# Altium footprint library Connector_Wire.PcbLib: 326 footprints (part 8 of 21)
Each footprint in its own frame and in the unit in brackets; x right, y up, seen from the top. Pads: shape width x height; smd on the part's side, far side on the other; paste and mask are expansions set on the pad; w line width, h text height; cw(c..) or ccw(c..) is an arc to the next point about the centre after c.
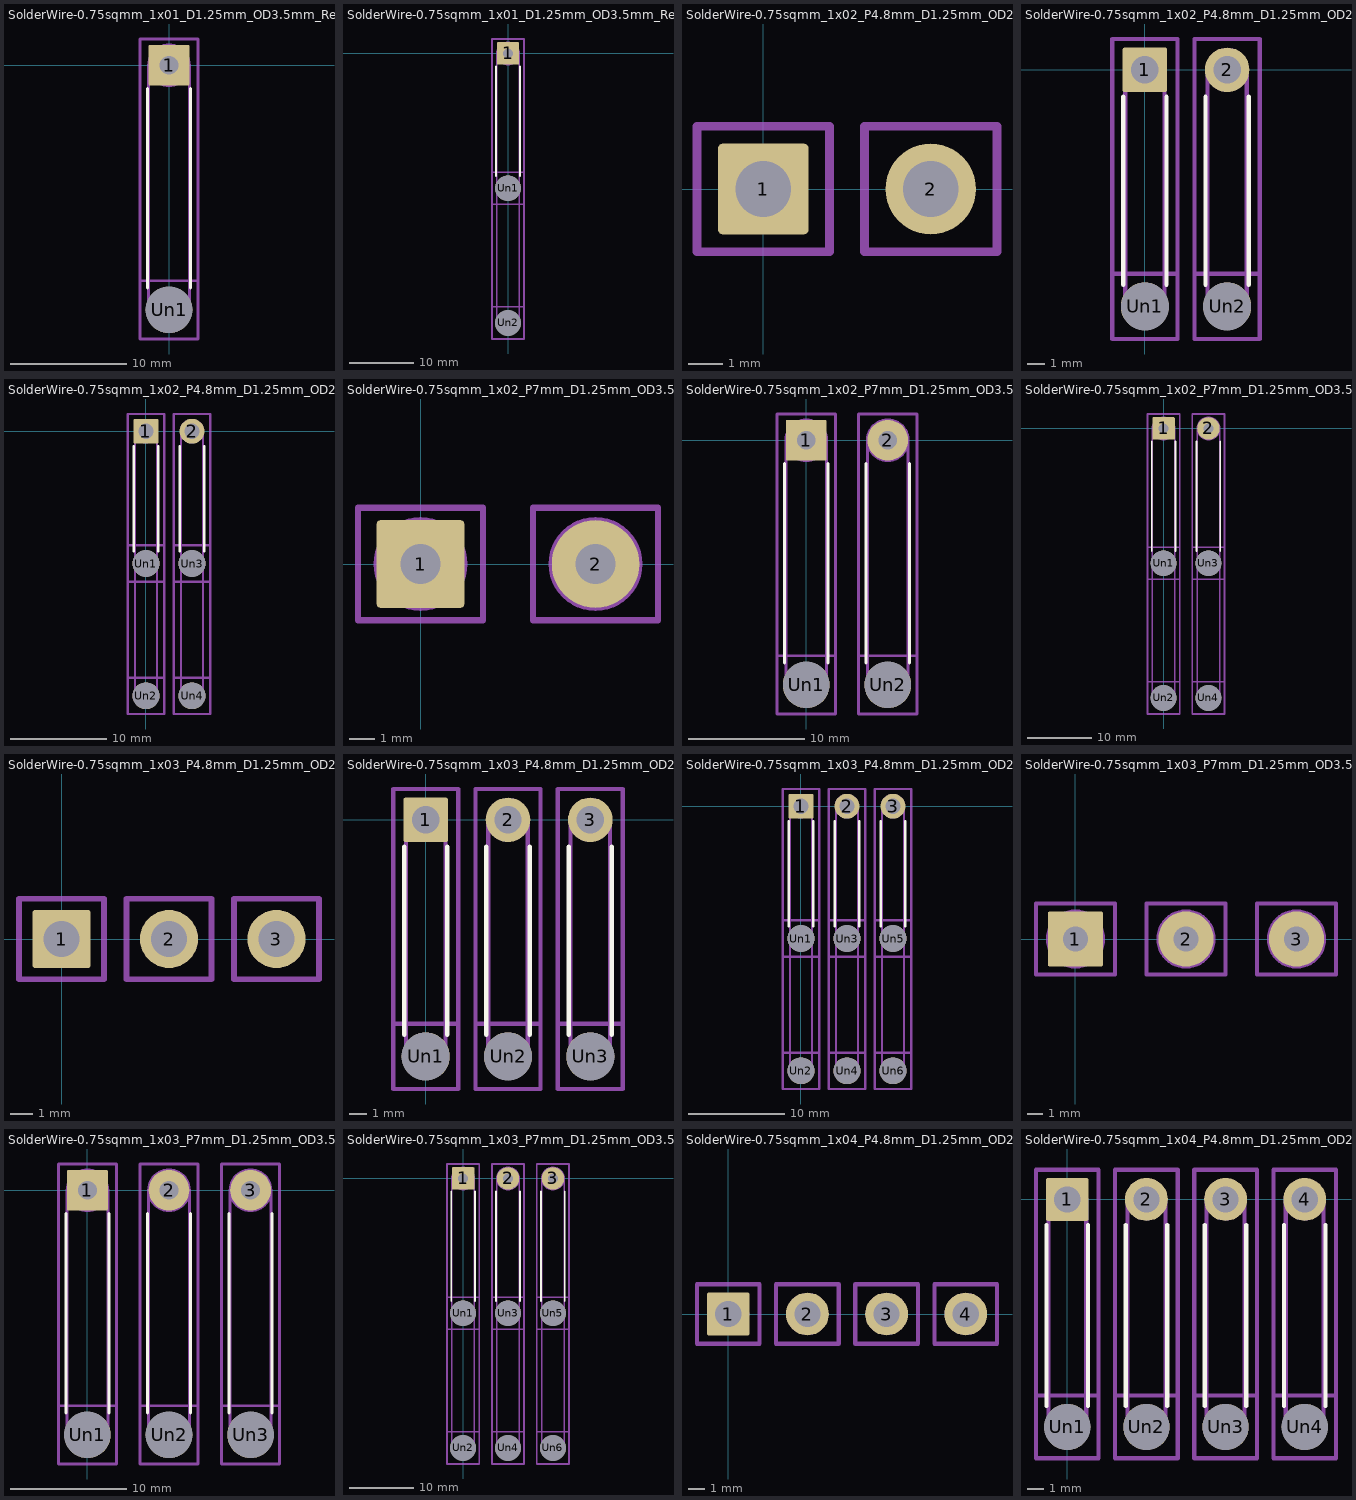
[diagram p7: the footprints below, top view; thin cyan lines are the x and y axes]

## SolderWire-0.75sqmm_1x01_D1.25mm_OD3.5mm_Relief [mm]
pads (2):
  rrect7% 3.5x3.5 hole 1.6: 1(0,0)
  round 4 hole 4: Un1(0,-21)
F.SilkS:
  lines w0.254: -1.86,-19.14 -1.86,-2.01 ; 1.86,-19.14 1.86,-2.01
Top Assembly:
  circle w0.254: c0,-21 r1.75
  circle w0.254: c0,0 r1.75
  lines w0.254: -1.75,-21 -1.75,0 ; 1.75,-21 1.75,0
  text "'.Designator'" at 0.84,-14.547 h1
Top Courtyard:
  lines w0.254: -2.5,-23.5 2.5,-23.5 2.5,2.25 -2.5,2.25 -2.5,-23.5
Bottom Courtyard:
  lines w0.254: -2.5,-23.5 2.5,-23.5 2.5,-18.5 -2.5,-18.5 -2.5,-23.5
Top Designator:
  text ".Designator" at -7.618,-11.133 h1.52

## SolderWire-0.75sqmm_1x01_D1.25mm_OD3.5mm_Relief2x [mm]
pads (3):
  rrect7% 3.5x3.5 hole 1.6: 1(0,0)
  round 4 hole 4: Un1(0,-21) Un2(0,-42)
F.SilkS:
  lines w0.254: -1.86,-19.14 -1.86,-2.01 ; 1.86,-19.14 1.86,-2.01
B.SilkS:
  lines w0.254: -1.86,-40.14 -1.86,-22.86 ; 1.86,-40.14 1.86,-22.86
Top Assembly:
  circle w0.254: c0,-42 r1.75
  circle w0.254: c0,-21 r1.75
  circle w0.254: c0,0 r1.75
  lines w0.254: -1.75,-21 -1.75,0 ; 1.75,-21 1.75,0
  text "'.Designator'" at 0.84,-14.547 h1
Bottom Assembly:
  circle w0.254: c0,-42 r1.75
  circle w0.254: c0,-21 r1.75
  lines w0.254: -1.75,-42 -1.75,-21 ; 1.75,-42 1.75,-21
Top Courtyard:
  lines w0.254: -2.5,-44.5 2.5,-44.5 2.5,-39.5 -2.5,-39.5 -2.5,-44.5 ; -2.5,-23.5 2.5,-23.5 2.5,2.25 -2.5,2.25 -2.5,-23.5
Bottom Courtyard:
  lines w0.254: -2.5,-44.5 2.5,-44.5 2.5,-18.5 -2.5,-18.5 -2.5,-44.5
Top Designator:
  text ".Designator" at -7.618,-21.633 h1.52

## SolderWire-0.75sqmm_1x02_P4.8mm_D1.25mm_OD2.3mm [mm]
pads (2):
  rrect10% 2.6x2.6 hole 1.6: 1(0,0)
  round 2.6 hole 1.6: 2(4.8,0)
Top Assembly:
  circle w0.254: c4.8,0 r1.15
  circle w0.254: c0,0 r1.15
  text "'.Designator'" at 3.161,-3.647 h0.9
Top Courtyard:
  lines w0.254: -1.9,-1.8 1.9,-1.8 1.9,1.8 -1.9,1.8 -1.9,-1.8 ; 2.9,-1.8 6.7,-1.8 6.7,1.8 2.9,1.8 2.9,-1.8
Top Designator:
  text ".Designator" at -5.218,-0.648 h1.52

## SolderWire-0.75sqmm_1x02_P4.8mm_D1.25mm_OD2.3mm_Relief [mm]
pads (4):
  rrect10% 2.6x2.6 hole 1.6: 1(0,0)
  round 2.6 hole 1.6: 2(4.8,0)
  round 2.8 hole 2.8: Un1(0,-13.8) Un2(4.8,-13.8)
F.SilkS:
  lines w0.254: -1.26,-12.54 -1.26,-1.56 ; 1.26,-12.54 1.26,-1.56 ; 3.54,-12.54 3.54,-1.56 ; 6.06,-12.54 6.06,-1.56
Top Assembly:
  circle w0.254: c4.8,-13.8 r1.15
  circle w0.254: c4.8,0 r1.15
  circle w0.254: c0,-13.8 r1.15
  circle w0.254: c0,0 r1.15
  lines w0.254: -1.15,-13.8 -1.15,0 ; 1.15,-13.8 1.15,0 ; 3.65,-13.8 3.65,0 ; 5.95,-13.8 5.95,0
  text "'.Designator'" at 3.24,-10.947 h1
Top Courtyard:
  lines w0.254: -1.9,-15.7 1.9,-15.7 1.9,1.8 -1.9,1.8 -1.9,-15.7 ; 2.9,-15.7 6.7,-15.7 6.7,1.8 2.9,1.8 2.9,-15.7
Bottom Courtyard:
  lines w0.254: -1.9,-15.7 1.9,-15.7 1.9,-11.9 -1.9,-11.9 -1.9,-15.7 ; 2.9,-15.7 6.7,-15.7 6.7,-11.9 2.9,-11.9 2.9,-15.7
Top Designator:
  text ".Designator" at -5.218,-7.458 h1.52

## SolderWire-0.75sqmm_1x02_P4.8mm_D1.25mm_OD2.3mm_Relief2x [mm]
pads (6):
  rrect10% 2.6x2.6 hole 1.6: 1(0,0)
  round 2.6 hole 1.6: 2(4.8,0)
  round 2.8 hole 2.8: Un1(0,-13.8) Un2(0,-27.6) Un3(4.8,-13.8) Un4(4.8,-27.6)
F.SilkS:
  lines w0.254: -1.26,-12.54 -1.26,-1.56 ; 1.26,-12.54 1.26,-1.56 ; 3.54,-12.54 3.54,-1.56 ; 6.06,-12.54 6.06,-1.56
B.SilkS:
  lines w0.254: -1.26,-26.34 -1.26,-15.06 ; 1.26,-26.34 1.26,-15.06 ; 3.54,-26.34 3.54,-15.06 ; 6.06,-26.34 6.06,-15.06
Top Assembly:
  circle w0.254: c4.8,-27.6 r1.15
  circle w0.254: c4.8,-13.8 r1.15
  circle w0.254: c4.8,0 r1.15
  circle w0.254: c0,-27.6 r1.15
  circle w0.254: c0,-13.8 r1.15
  circle w0.254: c0,0 r1.15
  lines w0.254: -1.15,-13.8 -1.15,0 ; 1.15,-13.8 1.15,0 ; 3.65,-13.8 3.65,0 ; 5.95,-13.8 5.95,0
  text "'.Designator'" at 3.24,-10.947 h1
Bottom Assembly:
  circle w0.254: c4.8,-27.6 r1.15
  circle w0.254: c4.8,-13.8 r1.15
  circle w0.254: c0,-27.6 r1.15
  circle w0.254: c0,-13.8 r1.15
  lines w0.254: -1.15,-27.6 -1.15,-13.8 ; 1.15,-27.6 1.15,-13.8 ; 3.65,-27.6 3.65,-13.8 ; 5.95,-27.6 5.95,-13.8
Top Courtyard:
  lines w0.254: -1.9,-29.5 1.9,-29.5 1.9,-25.7 -1.9,-25.7 -1.9,-29.5 ; -1.9,-15.7 1.9,-15.7 1.9,1.8 -1.9,1.8 -1.9,-15.7 ; 2.9,-29.5 6.7,-29.5 6.7,-25.7 2.9,-25.7 2.9,-29.5 ; 2.9,-15.7 6.7,-15.7 6.7,1.8 2.9,1.8 2.9,-15.7
Bottom Courtyard:
  lines w0.254: -1.9,-29.5 1.9,-29.5 1.9,-11.9 -1.9,-11.9 -1.9,-29.5 ; 2.9,-29.5 6.7,-29.5 6.7,-11.9 2.9,-11.9 2.9,-29.5
Top Designator:
  text ".Designator" at -5.218,-14.358 h1.52

## SolderWire-0.75sqmm_1x02_P7mm_D1.25mm_OD3.5mm [mm]
pads (2):
  rrect7% 3.5x3.5 hole 1.6: 1(0,0)
  round 3.5 hole 1.6: 2(7,0)
Top Assembly:
  circle w0.254: c7,0 r1.75
  circle w0.254: c0,0 r1.75
  text "'.Designator'" at 4.34,-4.047 h1
Top Courtyard:
  lines w0.254: -2.5,-2.25 2.5,-2.25 2.5,2.25 -2.5,2.25 -2.5,-2.25 ; 4.5,-2.25 9.5,-2.25 9.5,2.25 4.5,2.25 4.5,-2.25
Top Designator:
  text ".Designator" at -4.118,-0.658 h1.52

## SolderWire-0.75sqmm_1x02_P7mm_D1.25mm_OD3.5mm_Relief [mm]
pads (4):
  rrect7% 3.5x3.5 hole 1.6: 1(0,0)
  round 3.5 hole 1.6: 2(7,0)
  round 4 hole 4: Un1(0,-21) Un2(7,-21)
F.SilkS:
  lines w0.254: -1.86,-19.14 -1.86,-2.01 ; 1.86,-19.14 1.86,-2.01 ; 5.14,-19.14 5.14,-2.01 ; 8.86,-19.14 8.86,-2.01
Top Assembly:
  circle w0.254: c7,-21 r1.75
  circle w0.254: c7,0 r1.75
  circle w0.254: c0,-21 r1.75
  circle w0.254: c0,0 r1.75
  lines w0.254: -1.75,-21 -1.75,0 ; 1.75,-21 1.75,0 ; 5.25,-21 5.25,0 ; 8.75,-21 8.75,0
  text "'.Designator'" at 4.34,-14.547 h1
Top Courtyard:
  lines w0.254: -2.5,-23.5 2.5,-23.5 2.5,2.25 -2.5,2.25 -2.5,-23.5 ; 4.5,-23.5 9.5,-23.5 9.5,2.25 4.5,2.25 4.5,-23.5
Bottom Courtyard:
  lines w0.254: -2.5,-23.5 2.5,-23.5 2.5,-18.5 -2.5,-18.5 -2.5,-23.5 ; 4.5,-23.5 9.5,-23.5 9.5,-18.5 4.5,-18.5 4.5,-23.5
Top Designator:
  text ".Designator" at -4.118,-11.133 h1.52

## SolderWire-0.75sqmm_1x02_P7mm_D1.25mm_OD3.5mm_Relief2x [mm]
pads (6):
  rrect7% 3.5x3.5 hole 1.6: 1(0,0)
  round 3.5 hole 1.6: 2(7,0)
  round 4 hole 4: Un1(0,-21) Un2(0,-42) Un3(7,-21) Un4(7,-42)
F.SilkS:
  lines w0.254: -1.86,-19.14 -1.86,-2.01 ; 1.86,-19.14 1.86,-2.01 ; 5.14,-19.14 5.14,-2.01 ; 8.86,-19.14 8.86,-2.01
B.SilkS:
  lines w0.254: -1.86,-40.14 -1.86,-22.86 ; 1.86,-40.14 1.86,-22.86 ; 5.14,-40.14 5.14,-22.86 ; 8.86,-40.14 8.86,-22.86
Top Assembly:
  circle w0.254: c7,-42 r1.75
  circle w0.254: c7,-21 r1.75
  circle w0.254: c7,0 r1.75
  circle w0.254: c0,-42 r1.75
  circle w0.254: c0,-21 r1.75
  circle w0.254: c0,0 r1.75
  lines w0.254: -1.75,-21 -1.75,0 ; 1.75,-21 1.75,0 ; 5.25,-21 5.25,0 ; 8.75,-21 8.75,0
  text "'.Designator'" at 4.34,-14.547 h1
Bottom Assembly:
  circle w0.254: c7,-42 r1.75
  circle w0.254: c7,-21 r1.75
  circle w0.254: c0,-42 r1.75
  circle w0.254: c0,-21 r1.75
  lines w0.254: -1.75,-42 -1.75,-21 ; 1.75,-42 1.75,-21 ; 5.25,-42 5.25,-21 ; 8.75,-42 8.75,-21
Top Courtyard:
  lines w0.254: -2.5,-44.5 2.5,-44.5 2.5,-39.5 -2.5,-39.5 -2.5,-44.5 ; -2.5,-23.5 2.5,-23.5 2.5,2.25 -2.5,2.25 -2.5,-23.5 ; 4.5,-44.5 9.5,-44.5 9.5,-39.5 4.5,-39.5 4.5,-44.5 ; 4.5,-23.5 9.5,-23.5 9.5,2.25 4.5,2.25 4.5,-23.5
Bottom Courtyard:
  lines w0.254: -2.5,-44.5 2.5,-44.5 2.5,-18.5 -2.5,-18.5 -2.5,-44.5 ; 4.5,-44.5 9.5,-44.5 9.5,-18.5 4.5,-18.5 4.5,-44.5
Top Designator:
  text ".Designator" at -4.118,-21.633 h1.52

## SolderWire-0.75sqmm_1x03_P4.8mm_D1.25mm_OD2.3mm [mm]
pads (3):
  rrect10% 2.6x2.6 hole 1.6: 1(0,0)
  round 2.6 hole 1.6: 2(4.8,0) 3(9.6,0)
Top Assembly:
  circle w0.254: c9.6,0 r1.15
  circle w0.254: c4.8,0 r1.15
  circle w0.254: c0,0 r1.15
  text "'.Designator'" at 5.283,-2.311 h0.57
Top Courtyard:
  lines w0.254: -1.9,-1.8 1.9,-1.8 1.9,1.8 -1.9,1.8 -1.9,-1.8 ; 2.9,-1.8 6.7,-1.8 6.7,1.8 2.9,1.8 2.9,-1.8 ; 7.7,-1.8 11.5,-1.8 11.5,1.8 7.7,1.8 7.7,-1.8
Top Designator:
  text ".Designator" at -2.818,-0.598 h1.52

## SolderWire-0.75sqmm_1x03_P4.8mm_D1.25mm_OD2.3mm_Relief [mm]
pads (6):
  rrect10% 2.6x2.6 hole 1.6: 1(0,0)
  round 2.6 hole 1.6: 2(4.8,0) 3(9.6,0)
  round 2.8 hole 2.8: Un1(0,-13.8) Un2(4.8,-13.8) Un3(9.6,-13.8)
F.SilkS:
  lines w0.254: -1.26,-12.54 -1.26,-1.56 ; 1.26,-12.54 1.26,-1.56 ; 3.54,-12.54 3.54,-1.56 ; 6.06,-12.54 6.06,-1.56 ; 8.34,-12.54 8.34,-1.56 ; 10.86,-12.54 10.86,-1.56
Top Assembly:
  circle w0.254: c9.6,-13.8 r1.15
  circle w0.254: c9.6,0 r1.15
  circle w0.254: c4.8,-13.8 r1.15
  circle w0.254: c4.8,0 r1.15
  circle w0.254: c0,-13.8 r1.15
  circle w0.254: c0,0 r1.15
  lines w0.254: -1.15,-13.8 -1.15,0 ; 1.15,-13.8 1.15,0 ; 3.65,-13.8 3.65,0 ; 5.95,-13.8 5.95,0 ; 8.45,-13.8 8.45,0 ; 10.75,-13.8 10.75,0
  text "'.Designator'" at 5.64,-10.947 h1
Top Courtyard:
  lines w0.254: -1.9,-15.7 1.9,-15.7 1.9,1.8 -1.9,1.8 -1.9,-15.7 ; 2.9,-15.7 6.7,-15.7 6.7,1.8 2.9,1.8 2.9,-15.7 ; 7.7,-15.7 11.5,-15.7 11.5,1.8 7.7,1.8 7.7,-15.7
Bottom Courtyard:
  lines w0.254: -1.9,-15.7 1.9,-15.7 1.9,-11.9 -1.9,-11.9 -1.9,-15.7 ; 2.9,-15.7 6.7,-15.7 6.7,-11.9 2.9,-11.9 2.9,-15.7 ; 7.7,-15.7 11.5,-15.7 11.5,-11.9 7.7,-11.9 7.7,-15.7
Top Designator:
  text ".Designator" at -2.818,-7.458 h1.52

## SolderWire-0.75sqmm_1x03_P4.8mm_D1.25mm_OD2.3mm_Relief2x [mm]
pads (9):
  rrect10% 2.6x2.6 hole 1.6: 1(0,0)
  round 2.6 hole 1.6: 2(4.8,0) 3(9.6,0)
  round 2.8 hole 2.8: Un1(0,-13.8) Un2(0,-27.6) Un3(4.8,-13.8) Un4(4.8,-27.6) Un5(9.6,-13.8) Un6(9.6,-27.6)
F.SilkS:
  lines w0.254: -1.26,-12.54 -1.26,-1.56 ; 1.26,-12.54 1.26,-1.56 ; 3.54,-12.54 3.54,-1.56 ; 6.06,-12.54 6.06,-1.56 ; 8.34,-12.54 8.34,-1.56 ; 10.86,-12.54 10.86,-1.56
B.SilkS:
  lines w0.254: -1.26,-26.34 -1.26,-15.06 ; 1.26,-26.34 1.26,-15.06 ; 3.54,-26.34 3.54,-15.06 ; 6.06,-26.34 6.06,-15.06 ; 8.34,-26.34 8.34,-15.06 ; 10.86,-26.34 10.86,-15.06
Top Assembly:
  circle w0.254: c9.6,-27.6 r1.15
  circle w0.254: c9.6,-13.8 r1.15
  circle w0.254: c9.6,0 r1.15
  circle w0.254: c4.8,-27.6 r1.15
  circle w0.254: c4.8,-13.8 r1.15
  circle w0.254: c4.8,0 r1.15
  circle w0.254: c0,-27.6 r1.15
  circle w0.254: c0,-13.8 r1.15
  circle w0.254: c0,0 r1.15
  lines w0.254: -1.15,-13.8 -1.15,0 ; 1.15,-13.8 1.15,0 ; 3.65,-13.8 3.65,0 ; 5.95,-13.8 5.95,0 ; 8.45,-13.8 8.45,0 ; 10.75,-13.8 10.75,0
  text "'.Designator'" at 5.64,-10.947 h1
Bottom Assembly:
  circle w0.254: c9.6,-27.6 r1.15
  circle w0.254: c9.6,-13.8 r1.15
  circle w0.254: c4.8,-27.6 r1.15
  circle w0.254: c4.8,-13.8 r1.15
  circle w0.254: c0,-27.6 r1.15
  circle w0.254: c0,-13.8 r1.15
  lines w0.254: -1.15,-27.6 -1.15,-13.8 ; 1.15,-27.6 1.15,-13.8 ; 3.65,-27.6 3.65,-13.8 ; 5.95,-27.6 5.95,-13.8 ; 8.45,-27.6 8.45,-13.8 ; 10.75,-27.6 10.75,-13.8
Top Courtyard:
  lines w0.254: -1.9,-29.5 1.9,-29.5 1.9,-25.7 -1.9,-25.7 -1.9,-29.5 ; -1.9,-15.7 1.9,-15.7 1.9,1.8 -1.9,1.8 -1.9,-15.7 ; 2.9,-29.5 6.7,-29.5 6.7,-25.7 2.9,-25.7 2.9,-29.5 ; 2.9,-15.7 6.7,-15.7 6.7,1.8 2.9,1.8 2.9,-15.7 ; 7.7,-29.5 11.5,-29.5 11.5,-25.7 7.7,-25.7 7.7,-29.5 ; 7.7,-15.7 11.5,-15.7 11.5,1.8 7.7,1.8 7.7,-15.7
Bottom Courtyard:
  lines w0.254: -1.9,-29.5 1.9,-29.5 1.9,-11.9 -1.9,-11.9 -1.9,-29.5 ; 2.9,-29.5 6.7,-29.5 6.7,-11.9 2.9,-11.9 2.9,-29.5 ; 7.7,-29.5 11.5,-29.5 11.5,-11.9 7.7,-11.9 7.7,-29.5
Top Designator:
  text ".Designator" at -2.818,-14.358 h1.52

## SolderWire-0.75sqmm_1x03_P7mm_D1.25mm_OD3.5mm [mm]
pads (3):
  rrect7% 3.5x3.5 hole 1.6: 1(0,0)
  round 3.5 hole 1.6: 2(7,0) 3(14,0)
Top Assembly:
  circle w0.254: c14,0 r1.75
  circle w0.254: c7,0 r1.75
  circle w0.254: c0,0 r1.75
  text "'.Designator'" at 3.441,-0.737 h0.88
Top Courtyard:
  lines w0.254: -2.5,-2.25 2.5,-2.25 2.5,2.25 -2.5,2.25 -2.5,-2.25 ; 4.5,-2.25 9.5,-2.25 9.5,2.25 4.5,2.25 4.5,-2.25 ; 11.5,-2.25 16.5,-2.25 16.5,2.25 11.5,2.25 11.5,-2.25
Top Designator:
  text ".Designator" at -0.618,-0.508 h1.52

## SolderWire-0.75sqmm_1x03_P7mm_D1.25mm_OD3.5mm_Relief [mm]
pads (6):
  rrect7% 3.5x3.5 hole 1.6: 1(0,0)
  round 3.5 hole 1.6: 2(7,0) 3(14,0)
  round 4 hole 4: Un1(0,-21) Un2(7,-21) Un3(14,-21)
F.SilkS:
  lines w0.254: -1.86,-19.14 -1.86,-2.01 ; 1.86,-19.14 1.86,-2.01 ; 5.14,-19.14 5.14,-2.01 ; 8.86,-19.14 8.86,-2.01 ; 12.14,-19.14 12.14,-2.01 ; 15.86,-19.14 15.86,-2.01
Top Assembly:
  circle w0.254: c14,-21 r1.75
  circle w0.254: c14,0 r1.75
  circle w0.254: c7,-21 r1.75
  circle w0.254: c7,0 r1.75
  circle w0.254: c0,-21 r1.75
  circle w0.254: c0,0 r1.75
  lines w0.254: -1.75,-21 -1.75,0 ; 1.75,-21 1.75,0 ; 5.25,-21 5.25,0 ; 8.75,-21 8.75,0 ; 12.25,-21 12.25,0 ; 15.75,-21 15.75,0
  text "'.Designator'" at 7.84,-14.547 h1
Top Courtyard:
  lines w0.254: -2.5,-23.5 2.5,-23.5 2.5,2.25 -2.5,2.25 -2.5,-23.5 ; 4.5,-23.5 9.5,-23.5 9.5,2.25 4.5,2.25 4.5,-23.5 ; 11.5,-23.5 16.5,-23.5 16.5,2.25 11.5,2.25 11.5,-23.5
Bottom Courtyard:
  lines w0.254: -2.5,-23.5 2.5,-23.5 2.5,-18.5 -2.5,-18.5 -2.5,-23.5 ; 4.5,-23.5 9.5,-23.5 9.5,-18.5 4.5,-18.5 4.5,-23.5 ; 11.5,-23.5 16.5,-23.5 16.5,-18.5 11.5,-18.5 11.5,-23.5
Top Designator:
  text ".Designator" at -0.618,-11.133 h1.52

## SolderWire-0.75sqmm_1x03_P7mm_D1.25mm_OD3.5mm_Relief2x [mm]
pads (9):
  rrect7% 3.5x3.5 hole 1.6: 1(0,0)
  round 3.5 hole 1.6: 2(7,0) 3(14,0)
  round 4 hole 4: Un1(0,-21) Un2(0,-42) Un3(7,-21) Un4(7,-42) Un5(14,-21) Un6(14,-42)
F.SilkS:
  lines w0.254: -1.86,-19.14 -1.86,-2.01 ; 1.86,-19.14 1.86,-2.01 ; 5.14,-19.14 5.14,-2.01 ; 8.86,-19.14 8.86,-2.01 ; 12.14,-19.14 12.14,-2.01 ; 15.86,-19.14 15.86,-2.01
B.SilkS:
  lines w0.254: -1.86,-40.14 -1.86,-22.86 ; 1.86,-40.14 1.86,-22.86 ; 5.14,-40.14 5.14,-22.86 ; 8.86,-40.14 8.86,-22.86 ; 12.14,-40.14 12.14,-22.86 ; 15.86,-40.14 15.86,-22.86
Top Assembly:
  circle w0.254: c14,-42 r1.75
  circle w0.254: c14,-21 r1.75
  circle w0.254: c14,0 r1.75
  circle w0.254: c7,-42 r1.75
  circle w0.254: c7,-21 r1.75
  circle w0.254: c7,0 r1.75
  circle w0.254: c0,-42 r1.75
  circle w0.254: c0,-21 r1.75
  circle w0.254: c0,0 r1.75
  lines w0.254: -1.75,-21 -1.75,0 ; 1.75,-21 1.75,0 ; 5.25,-21 5.25,0 ; 8.75,-21 8.75,0 ; 12.25,-21 12.25,0 ; 15.75,-21 15.75,0
  text "'.Designator'" at 7.84,-14.547 h1
Bottom Assembly:
  circle w0.254: c14,-42 r1.75
  circle w0.254: c14,-21 r1.75
  circle w0.254: c7,-42 r1.75
  circle w0.254: c7,-21 r1.75
  circle w0.254: c0,-42 r1.75
  circle w0.254: c0,-21 r1.75
  lines w0.254: -1.75,-42 -1.75,-21 ; 1.75,-42 1.75,-21 ; 5.25,-42 5.25,-21 ; 8.75,-42 8.75,-21 ; 12.25,-42 12.25,-21 ; 15.75,-42 15.75,-21
Top Courtyard:
  lines w0.254: -2.5,-44.5 2.5,-44.5 2.5,-39.5 -2.5,-39.5 -2.5,-44.5 ; -2.5,-23.5 2.5,-23.5 2.5,2.25 -2.5,2.25 -2.5,-23.5 ; 4.5,-44.5 9.5,-44.5 9.5,-39.5 4.5,-39.5 4.5,-44.5 ; 4.5,-23.5 9.5,-23.5 9.5,2.25 4.5,2.25 4.5,-23.5 ; 11.5,-44.5 16.5,-44.5 16.5,-39.5 11.5,-39.5 11.5,-44.5 ; 11.5,-23.5 16.5,-23.5 16.5,2.25 11.5,2.25 11.5,-23.5
Bottom Courtyard:
  lines w0.254: -2.5,-44.5 2.5,-44.5 2.5,-18.5 -2.5,-18.5 -2.5,-44.5 ; 4.5,-44.5 9.5,-44.5 9.5,-18.5 4.5,-18.5 4.5,-44.5 ; 11.5,-44.5 16.5,-44.5 16.5,-18.5 11.5,-18.5 11.5,-44.5
Top Designator:
  text ".Designator" at -0.618,-21.633 h1.52

## SolderWire-0.75sqmm_1x04_P4.8mm_D1.25mm_OD2.3mm [mm]
pads (4):
  rrect10% 2.6x2.6 hole 1.6: 1(0,0)
  round 2.6 hole 1.6: 2(4.8,0) 3(9.6,0) 4(14.4,0)
Top Assembly:
  circle w0.254: c14.4,0 r1.15
  circle w0.254: c9.6,0 r1.15
  circle w0.254: c4.8,0 r1.15
  circle w0.254: c0,0 r1.15
  text "'.Designator'" at 7.961,-3.647 h0.9
Top Courtyard:
  lines w0.254: -1.9,-1.8 1.9,-1.8 1.9,1.8 -1.9,1.8 -1.9,-1.8 ; 2.9,-1.8 6.7,-1.8 6.7,1.8 2.9,1.8 2.9,-1.8 ; 7.7,-1.8 11.5,-1.8 11.5,1.8 7.7,1.8 7.7,-1.8 ; 12.5,-1.8 16.3,-1.8 16.3,1.8 12.5,1.8 12.5,-1.8
Top Designator:
  text ".Designator" at -0.418,-0.648 h1.52

## SolderWire-0.75sqmm_1x04_P4.8mm_D1.25mm_OD2.3mm_Relief [mm]
pads (8):
  rrect10% 2.6x2.6 hole 1.6: 1(0,0)
  round 2.6 hole 1.6: 2(4.8,0) 3(9.6,0) 4(14.4,0)
  round 2.8 hole 2.8: Un1(0,-13.8) Un2(4.8,-13.8) Un3(9.6,-13.8) Un4(14.4,-13.8)
F.SilkS:
  lines w0.254: -1.26,-12.54 -1.26,-1.56 ; 1.26,-12.54 1.26,-1.56 ; 3.54,-12.54 3.54,-1.56 ; 6.06,-12.54 6.06,-1.56 ; 8.34,-12.54 8.34,-1.56 ; 10.86,-12.54 10.86,-1.56 ; 13.14,-12.54 13.14,-1.56 ; 15.66,-12.54 15.66,-1.56
Top Assembly:
  circle w0.254: c14.4,-13.8 r1.15
  circle w0.254: c14.4,0 r1.15
  circle w0.254: c9.6,-13.8 r1.15
  circle w0.254: c9.6,0 r1.15
  circle w0.254: c4.8,-13.8 r1.15
  circle w0.254: c4.8,0 r1.15
  circle w0.254: c0,-13.8 r1.15
  circle w0.254: c0,0 r1.15
  lines w0.254: -1.15,-13.8 -1.15,0 ; 1.15,-13.8 1.15,0 ; 3.65,-13.8 3.65,0 ; 5.95,-13.8 5.95,0 ; 8.45,-13.8 8.45,0 ; 10.75,-13.8 10.75,0 ; 13.25,-13.8 13.25,0 ; 15.55,-13.8 15.55,0
  text "'.Designator'" at 8.04,-10.947 h1
Top Courtyard:
  lines w0.254: -1.9,-15.7 1.9,-15.7 1.9,1.8 -1.9,1.8 -1.9,-15.7 ; 2.9,-15.7 6.7,-15.7 6.7,1.8 2.9,1.8 2.9,-15.7 ; 7.7,-15.7 11.5,-15.7 11.5,1.8 7.7,1.8 7.7,-15.7 ; 12.5,-15.7 16.3,-15.7 16.3,1.8 12.5,1.8 12.5,-15.7
Bottom Courtyard:
  lines w0.254: -1.9,-15.7 1.9,-15.7 1.9,-11.9 -1.9,-11.9 -1.9,-15.7 ; 2.9,-15.7 6.7,-15.7 6.7,-11.9 2.9,-11.9 2.9,-15.7 ; 7.7,-15.7 11.5,-15.7 11.5,-11.9 7.7,-11.9 7.7,-15.7 ; 12.5,-15.7 16.3,-15.7 16.3,-11.9 12.5,-11.9 12.5,-15.7
Top Designator:
  text ".Designator" at -0.418,-7.458 h1.52